# Altium footprint library ADS1271.PcbLib: 1 footprints
Each footprint in its own frame and in the unit in brackets; x right, y up, seen from the top. Pads: shape width x height; smd on the part's side, far side on the other; paste and mask are expansions set on the pad; w line width, h text height; cw(c..) or ccw(c..) is an arc to the next point about the centre after c.
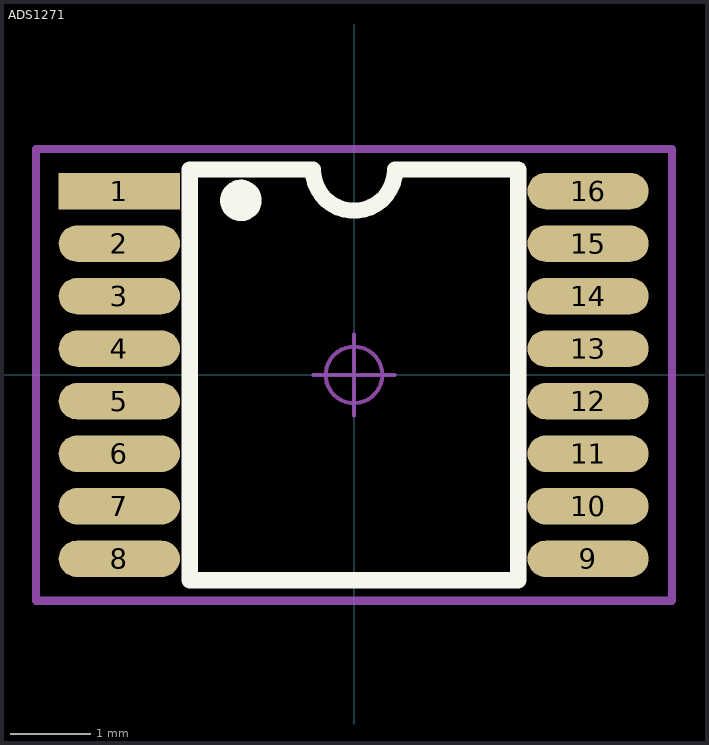
[diagram p0: the footprint, top view; thin cyan lines are the x and y axes]

## ADS1271 [mm]
height 1.2
pads (16):
  rect 1.5x0.45 smd mask+0.03: 1(-2.904,2.275)
  oval 1.5x0.45 smd mask+0.03: 2(-2.904,1.625) 3(-2.904,0.975) 4(-2.904,0.325) 5(-2.904,-0.325) 6(-2.904,-0.975) 7(-2.904,-1.625) 8(-2.904,-2.275) 9(2.896,-2.275) 10(2.896,-1.625) 11(2.896,-0.975) 12(2.896,-0.325) 13(2.896,0.325) 14(2.896,0.975) 15(2.896,1.625) 16(2.896,2.275)
Top Overlay:
  circle w0.254: c-1.4,2.159 r0.13
  lines w0.2: -2.032,-2.54 -2.032,2.54 -0.508,2.54 ccw(c0,2.54) 0.508,2.54 2.032,2.54 2.032,-2.54 -2.032,-2.54
Mechanical 15:
  circle w0.05: c0,0 r0.35
  lines w0.05: -0.5,0 0.5,0 ; 0,-0.5 0,0.5
  lines w0.1: -3.937,-2.794 3.937,-2.794 3.937,2.794 -3.937,2.794 -3.937,-2.794